# Altium footprint library XTAL_HC49P488W45L1150T500H350.PcbLib: 1 footprints
Each footprint in its own frame and in the unit in brackets; x right, y up, seen from the top. Pads: shape width x height; smd on the part's side, far side on the other; paste and mask are expansions set on the pad; w line width, h text height; cw(c..) or ccw(c..) is an arc to the next point about the centre after c.
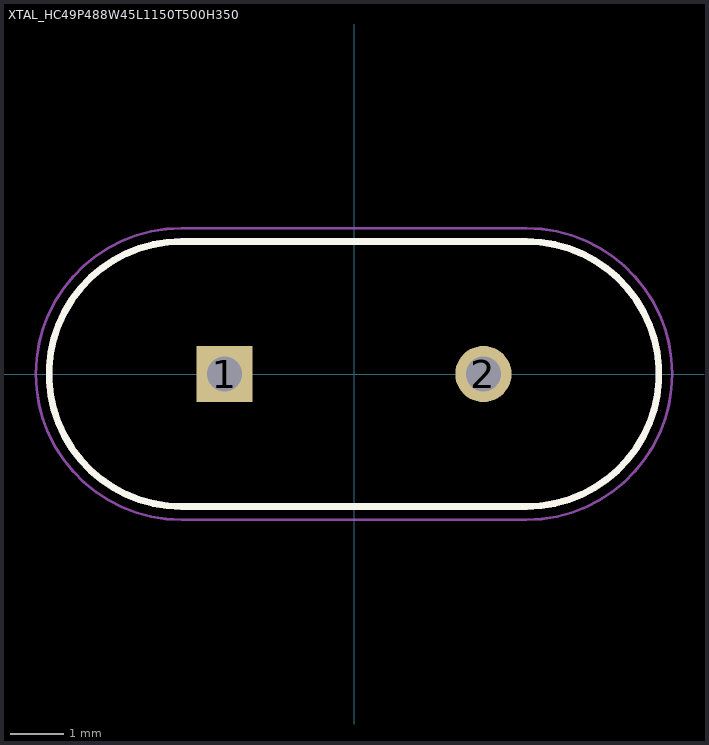
[diagram p0: the footprint, top view; thin cyan lines are the x and y axes]

## XTAL_HC49P488W45L1150T500H350 [mm]
pads (2):
  rect 1.06x1.06 hole 0.66: 1(-2.44,0)
  round 1.06 hole 0.66: 2(2.44,0)
Top Overlay:
  lines w0.127: -3.25,-2.5 cw(c-3.25,0) -3.25,2.5 3.25,2.5 cw(c3.25,0) 3.25,-2.5 -3.25,-2.5
Mechanical 4:
  lines w0.127: -3.25,-2.5 cw(c-3.25,0) -3.25,2.5 ; -3.25,-2.5 cw(c-3.25,0) -3.25,2.5 ; -3.25,-2.5 3.25,-2.5 ; -3.25,-2.5 3.25,-2.5 ; -3.25,2.5 3.25,2.5 ; -3.25,2.5 3.25,2.5 ; 3.25,-2.5 ccw(c3.25,0) 3.25,2.5 ; 3.25,-2.5 ccw(c3.25,0) 3.25,2.5
Mechanical 16:
  lines w0.05: -3.25,-2.75 cw(c-3.25,0) -3.25,2.75 3.25,2.75 cw(c3.25,0) 3.25,-2.75 -3.25,-2.75